# Altium integrated library A3910EEETR-T.IntLib: 2 symbols
Pins are listed as number, name and electrical type; pins without a type are passive.

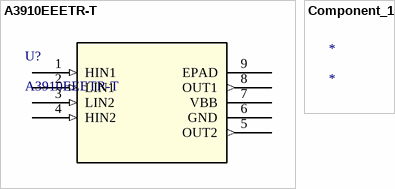
[diagram p0: symbols A3910EEETR-T to Component_1]

## A3910EEETR-T
designator U?
No Description Available; Mfr_Name: Allegro Microsystems Inc.; Copyright: Copyright (C) 2021 Ultra Librarian. All rights reserved.; Manufacturer_Part_Number: A3910EEETR-T; RefDes: RefDes; Type: DEV
footprint DFN-8_ALM
pins: 1 HIN1 (in), 2 LIN1 (in), 3 LIN2 (in), 4 HIN2 (in), 5 OUT2 (out), 6 GND, 7 VBB, 8 OUT1 (out), 9 EPAD

## Component_1
designator *